# Altium schematic symbol library 2sb688.SchLib: 1 symbol
Pins are listed as number, name and electrical type; pins without a type are passive.

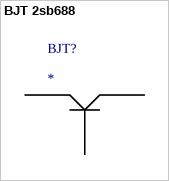
[diagram p0: symbol BJT 2sb688]

## BJT 2sb688
designator BJT?
footprint 2sb688
pins: 1, 2, 3